# EAGLE library part 74LVCH16T245 (library xess)
16-Bit Dual-Supply Bus Transceiver with Configurable Voltage Translation and 3-State Outputs
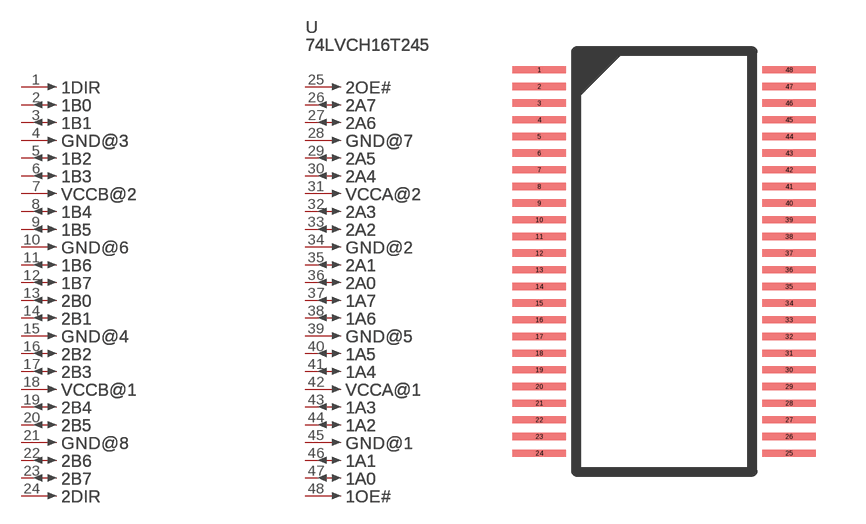
[diagram p138: symbol with the pads of TI-TSSOP48; footprint TI-TSSOP48]

Designator prefix U; gates PART=PV_GATE 1DIR=PIN_GATE_IN 1B0=PIN_GATE_IO 1B1=PIN_GATE_IO GND@3=PIN_GATE_IN 1B2=PIN_GATE_IO 1B3=PIN_GATE_IO VCCB@2=PIN_GATE_IN 1B4=PIN_GATE_IO 1B5=PIN_GATE_IO GND@6=PIN_GATE_IN 1B6=PIN_GATE_IO 1B7=PIN_GATE_IO 2B0=PIN_GATE_IO 2B1=PIN_GATE_IO GND@4=PIN_GATE_IN 2B2=PIN_GATE_IO 2B3=PIN_GATE_IO VCCB@1=PIN_GATE_IN 2B4=PIN_GATE_IO 2B5=PIN_GATE_IO GND@8=PIN_GATE_IN 2B6=PIN_GATE_IO 2B7=PIN_GATE_IO 2DIR=PIN_GATE_IN 2OE#=PIN_GATE_IN 2A7=PIN_GATE_IO 2A6=PIN_GATE_IO GND@7=PIN_GATE_IN 2A5=PIN_GATE_IO 2A4=PIN_GATE_IO VCCA@2=PIN_GATE_IN 2A3=PIN_GATE_IO 2A2=PIN_GATE_IO GND@2=PIN_GATE_IN 2A1=PIN_GATE_IO 2A0=PIN_GATE_IO 1A7=PIN_GATE_IO 1A6=PIN_GATE_IO GND@5=PIN_GATE_IN 1A5=PIN_GATE_IO 1A4=PIN_GATE_IO VCCA@1=PIN_GATE_IN 1A3=PIN_GATE_IO 1A2=PIN_GATE_IO GND@1=PIN_GATE_IN 1A1=PIN_GATE_IO 1A0=PIN_GATE_IO 1OE#=PIN_GATE_IN

## 74LVCH16T245-DGG  [TI-TSSOP48]
1  1DIR:1  in
2  1B0:1
3  1B1:1
4  GND@3:1  in
5  1B2:1
6  1B3:1
7  VCCB@2:1  in
8  1B4:1
9  1B5:1
10  GND@6:1  in
11  1B6:1
12  1B7:1
13  2B0:1
14  2B1:1
15  GND@4:1  in
16  2B2:1
17  2B3:1
18  VCCB@1:1  in
19  2B4:1
20  2B5:1
21  GND@8:1  in
22  2B6:1
23  2B7:1
24  2DIR:1  in
25  2OE#:1  in
26  2A7:1
27  2A6:1
28  GND@7:1  in
29  2A5:1
30  2A4:1
31  VCCA@2:1  in
32  2A3:1
33  2A2:1
34  GND@2:1  in
35  2A1:1
36  2A0:1
37  1A7:1
38  1A6:1
39  GND@5:1  in
40  1A5:1
41  1A4:1
42  VCCA@1:1  in
43  1A3:1
44  1A2:1
45  GND@1:1  in
46  1A1:1
47  1A0:1
48  1OE#:1  in

## Footprint TI-TSSOP48 (pad centres in mm)
48-pin plastic small outline package
smd 1.6 x 0.22: 1 0,0; 2 0,-0.5; 3 0,-1; 4 0,-1.5; 5 0,-2; 6 0,-2.5; 7 0,-3; 8 0,-3.5; 9 0,-4; 10 0,-4.5; 11 0,-5; 12 0,-5.5; 13 0,-6; 14 0,-6.5; 15 0,-7; 16 0,-7.5; 17 0,-8; 18 0,-8.5; 19 0,-9; 20 0,-9.5; 21 0,-10; 22 0,-10.5; 23 0,-11; 24 0,-11.5; 25 7.5,-11.5; 26 7.5,-11; 27 7.5,-10.5; 28 7.5,-10; 29 7.5,-9.5; 30 7.5,-9; 31 7.5,-8.5; 32 7.5,-8; 33 7.5,-7.5; 34 7.5,-7; 35 7.5,-6.5; 36 7.5,-6; 37 7.5,-5.5; 38 7.5,-5; 39 7.5,-4.5; 40 7.5,-4; 41 7.5,-3.5; 42 7.5,-3; 43 7.5,-2.5; 44 7.5,-2; 45 7.5,-1.5; 46 7.5,-1; 47 7.5,-0.5; 48 7.5,0